# EAGLE library part AP9211SA (library ruark2)
Battery Battery Protection IC Lithium-Ion U-DFN2030-6 (Type C)
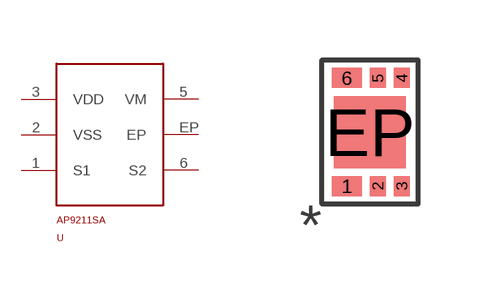
[diagram p23: symbol with the pads of AP9211SA; footprint AP9211SA]

Designator prefix U

## AP9211SA (PARTNO: AP9211SA-AE-HAC-7DICT-ND)  [AP9211SA]
1  S1
2  VSS
3  VDD
5  VM
6  S2
EP  EP

## Footprint AP9211SA (pad centres in mm)
smd 0.75 x 0.5: 1 -0.575,-1.35; 6 -0.575,1.35
smd 0.4 x 0.5: 2 0.2,-1.35; 3 0.8,-1.35; 4 0.8,1.35; 5 0.2,1.35
smd 1.8 x 1.8: EP 0,0